# EAGLE library part DB9 (library Connectors)
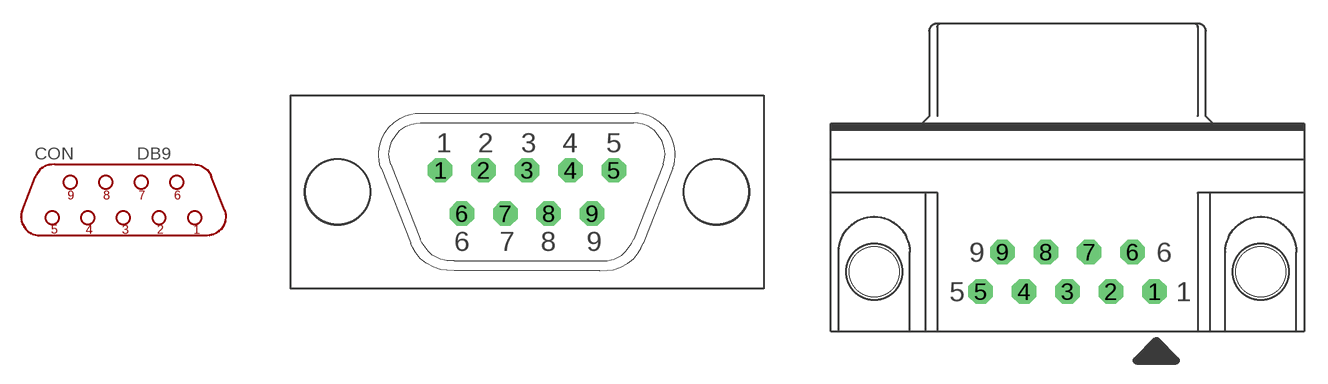
[diagram p5: symbol with the pads of D-09M; footprints D-09M, D-09M/90]

Designator prefix CON

## DB9-M (DIGIKEY#: AE10973-ND; MANF: Assmann WSW Components; MANF#: A-DS 09 PP/Z)  [D-09M]
1  1  pas
2  2  pas
3  3  pas
4  4  pas
5  5  pas
6  6  pas
7  7  pas
8  8  pas
9  9  pas

## DB9-M-RA  [D-09M/90]
Pads as for D-09M

## DB9-F  [D-09F]
Pads as for D-09M

## DB9-F-RA  [D-09F/90]
Pads as for D-09M

## Footprint D-09M (pad centres in mm)
drill 1.016 pad 1.575 octagon: 1 -5.588,1.397; 2 -2.794,1.397; 3 0,1.397; 4 2.794,1.397; 5 5.588,1.397; 6 -4.191,-1.397; 7 -1.397,-1.397; 8 1.397,-1.397; 9 4.191,-1.397
hole 4.115 at 12.192,0
hole 4.115 at -12.192,0

## Footprint D-09M/90 (pad centres in mm)
drill 1.016 pad 1.575 octagon: 1 5.588,-1.27; 2 2.794,-1.27; 3 0,-1.27; 4 -2.794,-1.27; 5 -5.588,-1.27; 6 4.191,1.27; 7 1.397,1.27; 8 -1.397,1.27; 9 -4.191,1.27
hole 3.2 at 12.446,0
hole 3.2 at -12.446,0

## Footprint D-09F (pad centres in mm)
drill 1.016 pad 1.575 octagon: 1 5.588,1.397; 2 2.794,1.397; 3 0,1.397; 4 -2.794,1.397; 5 -5.588,1.397; 6 4.191,-1.397; 7 1.397,-1.397; 8 -1.397,-1.397; 9 -4.191,-1.397
hole 4.115 at 12.192,0
hole 4.115 at -12.192,0

## Footprint D-09F/90 (pad centres in mm)
drill 1.016 pad 1.575 octagon: 1 -5.588,-1.27; 2 -2.794,-1.27; 3 0,-1.27; 4 2.794,-1.27; 5 5.588,-1.27; 6 -4.191,1.27; 7 -1.397,1.27; 8 1.397,1.27; 9 4.191,1.27
hole 3.2 at 12.446,0
hole 3.2 at -12.446,0